# EAGLE library part WE-RJ45_7499010211A (library WE-RJ45_LAN)
WE-RJ45 LAN Transformer Characteristics RJ45 Connector with integrated transformer / common mode choke Power over Ethernet up to 50 Watt and speeds up to 10 Gbit/s Available in SMD, THT and THT with USB Compliant with standards: IEEE 802.3u, IEEE 802.3ab, IEEE 802.3af, IEEE 802.3at, IEEE 802.3an and upcoming IEE 802.3bt Applications Suitable for industrial temperatures from –40 °C up to +85 °C Compatible to Industrial Ethernet systems like EtherCAT or Profinet Compliant with most IC’s for Ethernet applications such as Microchip, Texas Instruments, Broadcom, Linear Technology Hubs, Routers, Switches, IP cameras, IoT applications Details see: www.we-online.com/components/products/WE-LAN-RJ45 Updated by Ella Wu 2023-08-16 2023 (C) Würth Elektronik
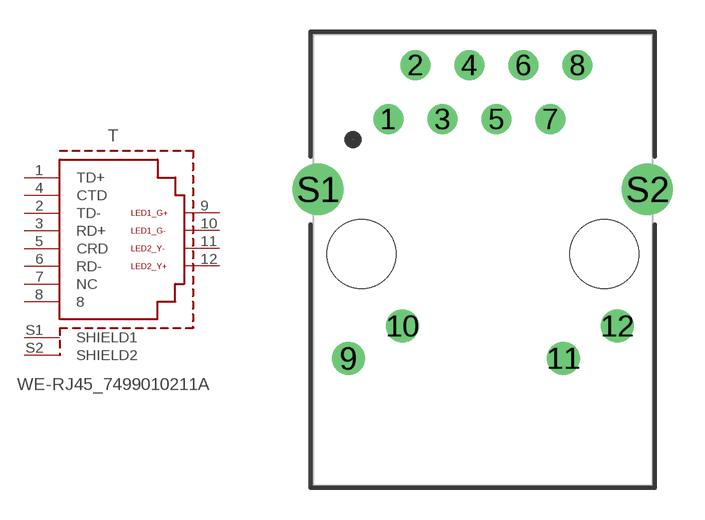
[diagram p55: symbol with the pads of 7499010211A; footprint 7499010211A]

Designator prefix T

## WE-RJ45_7499010211A (DATA-RATE: 100BASE-TX; DATASHEET: https://www.we-online.com/redexpert/spec/7499010211A?ae; IMPROVED-CMRR: No; LED: green-yellow; MOUNT: THT; OPERATING-TEMPERATURE: 0 °C up to +70 °C; PART-NUMBER: 7499010211A; PHY-CHIP-MODE: current & voltage; POE: non-PoE; PORTS: 1x1; SHIELD-TABS: No; TAB: Down; USB: No; VALUE: 7499010211A)  [7499010211A]
1  TD+  pas
2  TD-  pas
3  RD+  pas
4  CTD  pas
5  CRD  pas
6  RD-  pas
7  NC  pas
8  8  pas
9  LED1_G+  pas
10  LED1_G-  pas
11  LED2_Y-  pas
12  LED2_Y+  pas
S1  SHIELD1  pas
S2  SHIELD2  pas

## Footprint 7499010211A (pad centres in mm)
WE-RJ45 LAN Transformer 100BASE-TX, Ports:1x1, Tab:Down
drill 0.9: 1 -4.445,6.35; 2 -3.175,8.89; 3 -1.905,6.35; 4 -0.635,8.89; 5 0.635,6.35; 6 1.905,8.89; 7 3.175,6.35; 8 4.445,8.89
drill 1.03: 9 -6.325,-4.9; 10 -3.785,-3.38; 11 3.785,-4.9; 12 6.325,-3.38
drill 1.6: S1 -7.745,3.05; S2 7.745,3.05
hole 3.25 at -5.715,0
hole 3.25 at 5.715,0